# EAGLE library part PCT2075GV (library daqcs)
I2C-bus Fm+, 1 degree C accuracy, digital temperature sensor and thermal watchdog
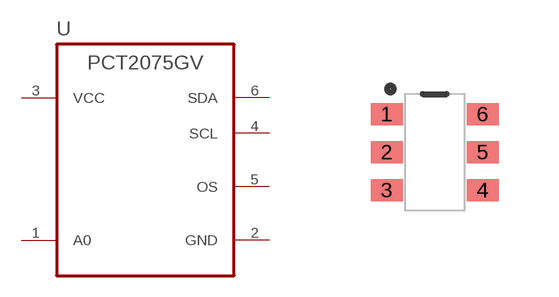
[diagram p25: symbol with the pads of TSOP95P080X055-6N; footprint TSOP95P080X055-6N]

Designator prefix U

## PCT2075GV_TSOP6 (DATASHEET: HW/docs/projects/raspi_zero_power_sensor_hat/datasheets/sensors/PCT2075.pdf; INTERFACE: I2C; MANUFACTURER: NXP; MANUFACTURER_PN: PCT2075GVJ; RESOLUTION: 10b; VALUE: PCT2075GVJ; VENDOR: Digi-key; VENDOR_PN: 568-12424-1-ND)  [TSOP95P080X055-6N]
1  A0  in
2  GND  pwr
3  VCC  pwr
4  SCL  in
5  OS  out
6  SDA

## Footprint TSOP95P080X055-6N (pad centres in mm)
smd 0.8 x 0.55: 1 -1.2,0.95; 2 -1.2,0; 3 -1.2,-0.95; 4 1.2,-0.95; 5 1.2,0; 6 1.2,0.95